# EAGLE library part TPS55340RTER (library TPS55340RTER)
None
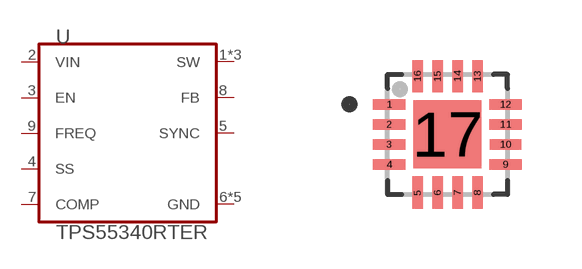
[diagram p0: symbol with the pads of QFN50P300X300X100-17N; footprint QFN50P300X300X100-17N]

Designator prefix U

## TPS55340RTER (AVAILABILITY: Unavailable; DESCRIPTION: STUSB03E Series 5.5 V 12 Mbps SMT Single Chip USB Transceiver - QFN-16 _3x3_; MF: STMicroelectronics; MP: STUSB03EQR; PACKAGE: QFN-16 STMicroelectronics; PRICE: None)  [QFN50P300X300X100-17N]
1  SW
2  VIN  pwr
3  EN
4  SS
5  SYNC
6  GND  pwr
7  COMP
8  FB
9  FREQ
11  GND  pwr
12  GND  pwr
13  GND  pwr
15  SW
16  SW
17  GND  pwr

## Footprint QFN50P300X300X100-17N (pad centres in mm)
smd 0.81 x 0.26: 1 -1.455,0.75; 2 -1.455,0.25; 3 -1.455,-0.25; 4 -1.455,-0.75; 9 1.455,-0.75; 11 1.455,0.25; 12 1.455,0.75
smd 0.26 x 0.81: 5 -0.75,-1.455; 6 -0.25,-1.455; 7 0.25,-1.455; 8 0.75,-1.455; 13 0.75,1.455; 14 0.25,1.455; 15 -0.25,1.455; 16 -0.75,1.455
smd 0.79 x 0.26: 10 1.455,-0.25
smd 1.7 x 1.7: 17 0,0